# EAGLE library part IS43R16160B-6TL (library ISSI_By_element14_Batch_1)
DRAM
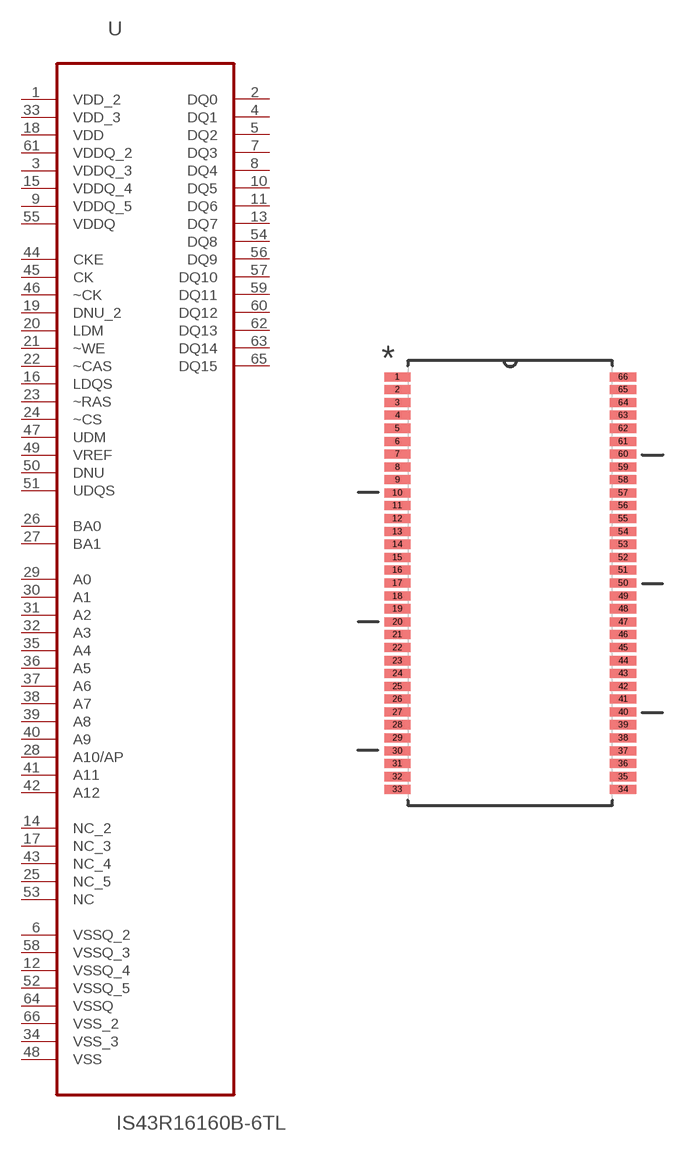
[diagram p1: symbol with the pads of SOP65P1176X120-66N; footprint SOP65P1176X120-66N]

Designator prefix U

## IS43R16160B-6TL (MPN: IS43R16160B-6TL; OC_FARNELL: 1869962; OC_NEWARK: 32T7408; PACKAGE: TSOP-66; SUPPLIER: INTEGRATED SILICON SOLUTION (ISSI))  [SOP65P1176X120-66N]
1  VDD_2  pwr
2  DQ0
3  VDDQ_3  pwr
4  DQ1
5  DQ2
6  VSSQ_2  pwr
7  DQ3
8  DQ4
9  VDDQ_5  pwr
10  DQ5
11  DQ6
12  VSSQ_4  pwr
13  DQ7
14  NC_2  nc
15  VDDQ_4  pwr
16  LDQS  in
17  NC_3  nc
18  VDD  pwr
19  DNU_2  pas
20  LDM  in
21  ~WE  in
22  ~CAS  in
23  ~RAS  in
24  ~CS  in
25  NC_5  nc
26  BA0  in
27  BA1  in
28  A10/AP  in
29  A0  in
30  A1  in
31  A2  in
32  A3  in
33  VDD_3  pwr
34  VSS_3  pwr
35  A4  in
36  A5  in
37  A6  in
38  A7  in
39  A8  in
40  A9  in
41  A11  in
42  A12  in
43  NC_4  nc
44  CKE  in
45  CK  in
46  ~CK  in
47  UDM  in
48  VSS  pwr
49  VREF  in
50  DNU  pas
51  UDQS  in
52  VSSQ_5  pwr
53  NC  nc
54  DQ8
55  VDDQ  pwr
56  DQ9
57  DQ10
58  VSSQ_3  pwr
59  DQ11
60  DQ12
61  VDDQ_2  pwr
62  DQ13
63  DQ14
64  VSSQ  pwr
65  DQ15
66  VSS_2  pwr

## Footprint SOP65P1176X120-66N (pad centres in mm)
smd 1.321 x 0.457: 1 -5.69,10.389; 2 -5.69,9.754; 3 -5.69,9.093; 4 -5.69,8.458; 5 -5.69,7.798; 6 -5.69,7.137; 7 -5.69,6.502; 8 -5.69,5.842; 9 -5.69,5.207; 10 -5.69,4.547; 11 -5.69,3.912; 12 -5.69,3.251; 13 -5.69,2.591; 14 -5.69,1.956; 15 -5.69,1.295; 16 -5.69,0.66; 17 -5.69,0; 18 -5.69,-0.66; 19 -5.69,-1.295; 20 -5.69,-1.956; 21 -5.69,-2.591; 22 -5.69,-3.251; 23 -5.69,-3.912; 24 -5.69,-4.547; 25 -5.69,-5.207; 26 -5.69,-5.842; 27 -5.69,-6.502; 28 -5.69,-7.137; 29 -5.69,-7.798; 30 -5.69,-8.458; 31 -5.69,-9.093; 32 -5.69,-9.754; 33 -5.69,-10.389; 34 5.69,-10.389; 35 5.69,-9.754; 36 5.69,-9.093; 37 5.69,-8.458; 38 5.69,-7.798; 39 5.69,-7.137; 40 5.69,-6.502; 41 5.69,-5.842; 42 5.69,-5.207; 43 5.69,-4.547; 44 5.69,-3.912; 45 5.69,-3.251; 46 5.69,-2.591; 47 5.69,-1.956; 48 5.69,-1.295; 49 5.69,-0.66; 50 5.69,0; 51 5.69,0.66; 52 5.69,1.295; 53 5.69,1.956; 54 5.69,2.591; 55 5.69,3.251; 56 5.69,3.912; 57 5.69,4.547; 58 5.69,5.207; 59 5.69,5.842; 60 5.69,6.502; 61 5.69,7.137; 62 5.69,7.798; 63 5.69,8.458; 64 5.69,9.093; 65 5.69,9.754; 66 5.69,10.389